# EAGLE library part ARDUINONANO (library ArduinoNano)
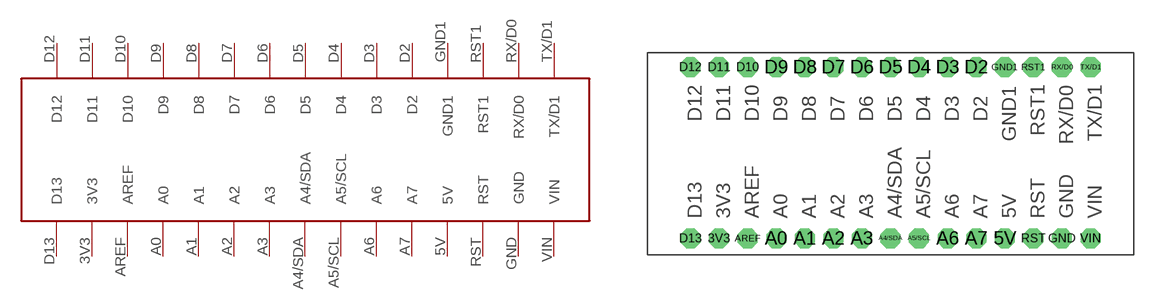
[diagram p0: symbol with the pads of ARDUINONANO; footprint ARDUINONANO]

Designator prefix -

## ARDUINONANO  [ARDUINONANO]
3V3  3V3
5V  5V
A0  A0
A1  A1
A2  A2
A3  A3
A4/SDA  A4/SDA
A5/SCL  A5/SCL
A6  A6
A7  A7
AREF  AREF
D2  D2
D3  D3
D4  D4
D5  D5
D6  D6
D7  D7
D8  D8
D9  D9
D10  D10
D11  D11
D12  D12
D13  D13
GND  GND
GND1  GND1
RST  RST
RST1  RST1
RX/D0  RX/D0
TX/D1  TX/D1
VIN  VIN

## Footprint ARDUINONANO (pad centres in mm)
drill 1 pad 1.778 octagon: 3V3 6.35,-16.51; 5V 31.75,-16.51; A0 11.43,-16.51; A1 13.97,-16.51; A2 16.51,-16.51; A3 19.05,-16.51; A4/SDA 21.59,-16.51; A5/SCL 24.13,-16.51; A6 26.67,-16.51; A7 29.21,-16.51; AREF 8.89,-16.51; D2 29.21,-1.27; D3 26.67,-1.27; D4 24.13,-1.27; D5 21.59,-1.27; D6 19.05,-1.27; D7 16.51,-1.27; D8 13.97,-1.27; D9 11.43,-1.27; D10 8.89,-1.27; D11 6.35,-1.27; D12 3.81,-1.27; D13 3.81,-16.51; GND 36.83,-16.51; GND1 31.75,-1.27; RST 34.29,-16.51; RST1 34.29,-1.27; RX/D0 36.83,-1.27; TX/D1 39.37,-1.27; VIN 39.37,-16.51